# EAGLE library part RASPBERRY_PI2B_10PIN (library 2020-03-18-Lib)
Raspberry Pi 2B/3B Hat Footprint RPI Hat that makes use of 10 pins of the GPIO 2019-10-11: >Updated footprint >Updated GPIO pin numeration
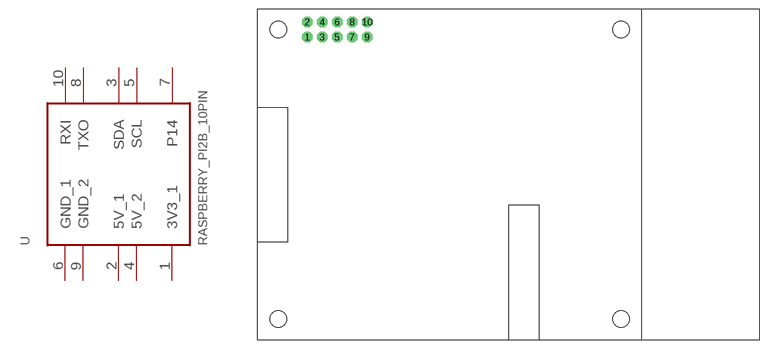
[diagram p0: symbol with the pads of RASPBERRY_PI2B_10PIN; footprint RASPBERRY_PI2B_10PIN]

Designator prefix -

## RASPBERRY_PI2B_10PIN  [RASPBERRY_PI2B_10PIN]
1  3V3_1  pwr
2  5V_1  pwr
3  SDA
4  5V_2  pwr
5  SCL
6  GND_1  pwr
7  P14
8  TXO
9  GND_2  pwr
10  RXI

## Footprint RASPBERRY_PI2B_10PIN (pad centres in mm)
Raspberry Pi 2B/3B Hat Footprint RPI Hat that makes use of 10 pins of the GPIO 2019-10-11: >Added 3mm keepout circle around screws >Reduced screw holes to 2.8[mm] >Updated GPIO pin numeration
drill 1 pad 1.8 octagon: 1 8.37,51.23; 2 8.37,53.77; 3 10.91,51.23; 4 10.91,53.77; 5 13.45,51.23; 6 13.45,53.77; 7 15.99,51.23; 8 15.99,53.77; 9 18.53,51.23; 10 18.53,53.77
hole 2.8 at 3.5,3.5
hole 2.8 at 3.5,52.5
hole 2.8 at 61.5,52.5
hole 2.8 at 61.5,3.5